# EAGLE library part 4455-C17_S (library con-molex-kk)
RECEPTACAL
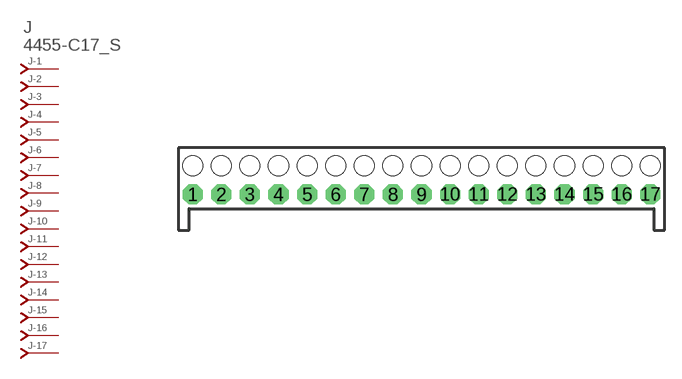
[diagram p53: symbol with the pads of 4455-C17; footprint 4455-C17]

Designator prefix J; gates -1=J-NV -2=J-N -3=J-N -4=J-N -5=J-N -6=J-N -7=J-N -8=J-N -9=J-N -10=J-N -11=J-N -12=J-N -13=J-N -14=J-N -15=J-N -16=J-N -17=J-N

## 4455-C17_S  [4455-C17]
1  -1:J  pas
2  -2:J  pas
3  -3:J  pas
4  -4:J  pas
5  -5:J  pas
6  -6:J  pas
7  -7:J  pas
8  -8:J  pas
9  -9:J  pas
10  -10:J  pas
11  -11:J  pas
12  -12:J  pas
13  -13:J  pas
14  -14:J  pas
15  -15:J  pas
16  -16:J  pas
17  -17:J  pas

## Footprint 4455-C17 (pad centres in mm)
RECEPTACAL Vertical, Top Entry, 0.1" pitch
drill 1.016 pad 1.778 octagon: 1 -20.32,0; 2 -17.78,0; 3 -15.24,0; 4 -12.7,0; 5 -10.16,0; 6 -7.62,0; 7 -5.08,0; 8 -2.54,0; 9 0,0; 10 2.54,0; 11 5.08,0; 12 7.62,0; 13 10.16,0; 14 12.7,0; 15 15.24,0; 16 17.78,0; 17 20.32,0
hole 1.778 at -20.32,2.54
hole 1.778 at -17.78,2.54
hole 1.778 at -15.24,2.54
hole 1.778 at -12.7,2.54
hole 1.778 at -10.16,2.54
hole 1.778 at -7.62,2.54
hole 1.778 at -5.08,2.54
hole 1.778 at -2.54,2.54
hole 1.778 at 0,2.54
hole 1.778 at 2.54,2.54
hole 1.778 at 5.08,2.54
hole 1.778 at 7.62,2.54
hole 1.778 at 10.16,2.54
hole 1.778 at 12.7,2.54
hole 1.778 at 15.24,2.54
hole 1.778 at 17.78,2.54
hole 1.778 at 20.32,2.54